# Altium footprint library 1206K.PcbLib: 1 footprints
Each footprint in its own frame and in the unit in brackets; x right, y up, seen from the top. Pads: shape width x height; smd on the part's side, far side on the other; paste and mask are expansions set on the pad; w line width, h text height; cw(c..) or ccw(c..) is an arc to the next point about the centre after c.
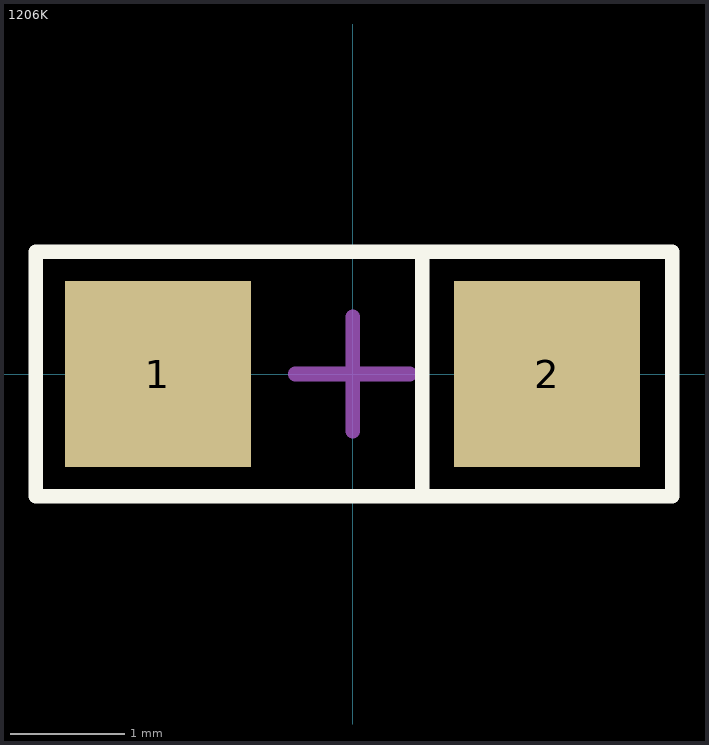
[diagram p0: the footprint, top view; thin cyan lines are the x and y axes]

## 1206K [mil]
height 27.56
pads (2):
  rect 64x64 smd: 1(-67,0) 2(67,0)
Top Overlay:
  lines w5: 24,-42 24,42 ; -109,-42 110,-42 110,42 -109,42 -109,-42
Mechanical 15:
  lines w5: -19.68,0 19.69,0 ; 0,-19.68 0,19.69
3D body: height 62.99, standoff 0, extent -72,-30.99 73.67,32